# Altium schematic symbol library 2015-08-26_23-06-01.SchLib: 2 symbols
Pins are listed as number, name and electrical type; pins without a type are passive.

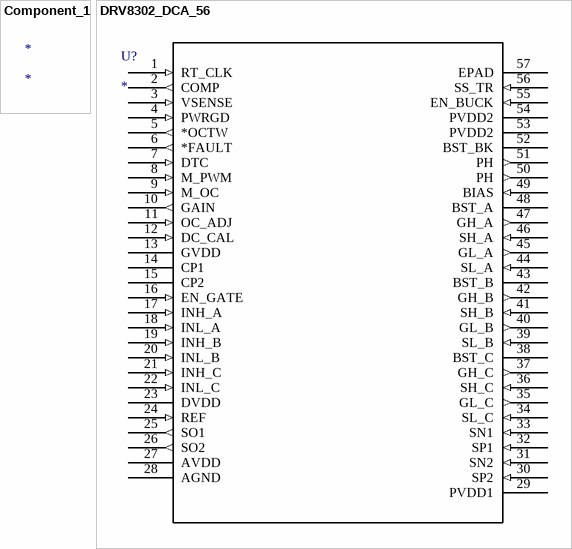
[diagram p0: symbols Component_1 to DRV8302_DCA_56]

## Component_1
designator *

## DRV8302_DCA_56
designator U?
Imported; Manufacturer: Texas Instruments; GENERIC_PART_NUMBER: DRV8302; Manufacturer_Part_Number: drv8302_dca_56; INDUSTRY_STD_PKG_TYPE: HTSSOP; FAMILY_NAME: 3-PHASE BRUSHLESS PRE-DRIVER; PIN_COUNT: 56; PACKAGE_DESIGNATOR: DCA; Datasheet URL: http://www.ti.com/lit/gpn/DRV8302; Vendor: Texas Instruments; RefDes: RefDes; Type: DEV; Value: Value
footprint DCA56_6P35X3P61
pins: 1 RT_CLK (in), 2 COMP (out), 3 VSENSE (in), 4 PWRGD (in), 5 *OCTW (out), 6 *FAULT (out), 7 DTC (in), 8 M_PWM (in), 9 M_OC (in), 10 GAIN (out), 11 OC_ADJ (in), 12 DC_CAL (in), 13 GVDD (power), 14 CP1 (power), 15 CP2 (power), 16 EN_GATE (in), 17 INH_A (in), 18 INL_A (in), 19 INH_B (in), 20 INL_B (in), 21 INH_C (in), 22 INL_C (in), 23 DVDD (power), 24 REF (in), 25 SO1 (out), 26 SO2 (out), 27 AVDD (power), 28 AGND (power), 29 PVDD1 (power), 30 SP2 (in), 31 SN2 (in), 32 SP1 (in), 33 SN1 (in), 34 SL_C (in), 35 GL_C (out), 36 SH_C (in), 37 GH_C (out), 38 BST_C (power), 39 SL_B (in), 40 GL_B (out), 41 SH_B (in), 42 GH_B (out), 43 BST_B (power), 44 SL_A (in), 45 GL_A (out), 46 SH_A (in), 47 GH_A (out), 48 BST_A (power), 49 BIAS (in), 50 PH (out), 51 PH (out), 52 BST_BK (power), 53 PVDD2 (power), 54 PVDD2 (power), 55 EN_BUCK (in), 56 SS_TR (in), 57 EPAD